# EAGLE library part BQ32000 (library EYR_CircuitosIntegrados)
BQ32000 Real-Time Clock (RTC)
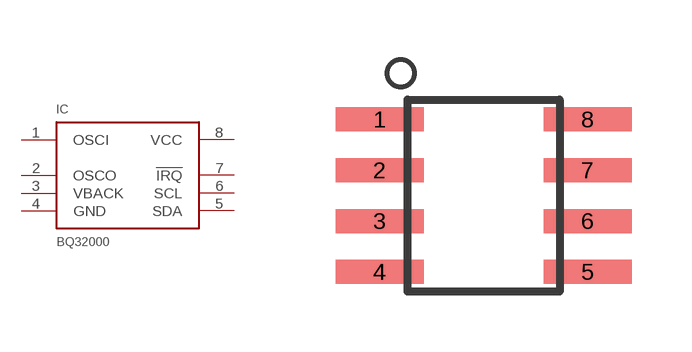
[diagram p10: symbol with the pads of SO-08; footprint SO-08]

Designator prefix IC

## BQ32000  [SO-08]
1  OSCI  in
2  OSCO  out
3  VBACK  pwr
4  GND  pwr
5  SDA
6  SCL  in
7  !IRQ!  out
8  VCC  pwr

## Footprint SO-08 (pad centres in mm)
Small Outline Narrow Plastic Gull Wing 150-mil body, package type SN
smd 2.2 x 0.6: 1 -2.6,1.905; 2 -2.6,0.635; 3 -2.6,-0.635; 4 -2.6,-1.905; 5 2.6,-1.905; 6 2.6,-0.635; 7 2.6,0.635; 8 2.6,1.905